# EAGLE library part TM1804 (library larger_pad_header)
TM1804 is a PWM LED driver chip with manchester code data transfer!
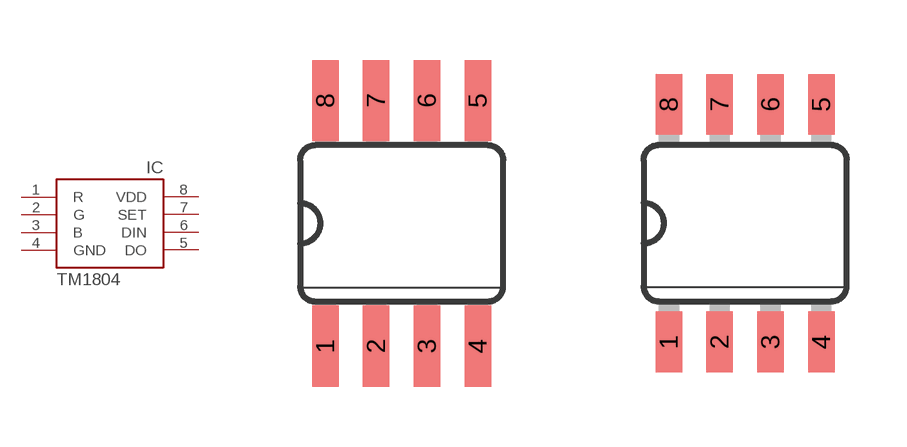
[diagram p101: symbol with the pads of SO08; footprints SO08, SO08-SKINNYPADS]

Designator prefix IC

## TM1804  [SO08]
1  R  out
2  G  out
3  B  out
4  GND  pwr
5  DO  out
6  DIN  in
7  SET  in
8  VDD  pwr

## TM1804SKINNY  [SO08-SKINNYPADS]
Pads as for SO08

## Footprint SO08 (pad centres in mm)
smd 0.66 x 2.032: 1 -1.905,-3.073; 2 -0.635,-3.073; 3 0.635,-3.073; 4 1.905,-3.073; 5 1.905,3.073; 6 0.635,3.073; 7 -0.635,3.073; 8 -1.905,3.073

## Footprint SO08-SKINNYPADS (pad centres in mm)
smd 0.66 x 1.524: 1 -1.905,-2.973; 2 -0.635,-2.973; 3 0.635,-2.973; 4 1.905,-2.973; 5 1.905,2.973; 6 0.635,2.973; 7 -0.635,2.973; 8 -1.905,2.973